# Altium schematic symbol library ADV7612.SchLib: 1 symbol
Pins are listed as number, name and electrical type; pins without a type are passive.

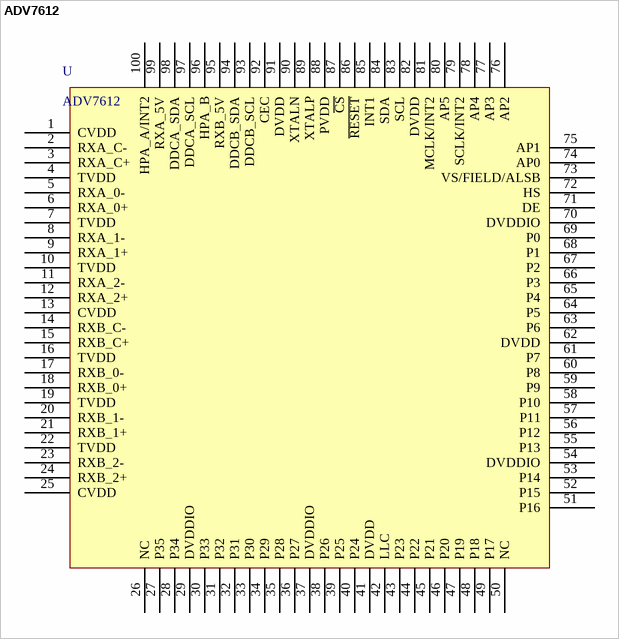
[diagram p0: symbol ADV7612]

## ADV7612
designator U
pins: 1 CVDD, 2 RXA_C-, 3 RXA_C+, 4 TVDD, 5 RXA_0-, 6 RXA_0+, 7 TVDD, 8 RXA_1-, 9 RXA_1+, 10 TVDD, 11 RXA_2-, 12 RXA_2+, 13 CVDD, 14 RXB_C-, 15 RXB_C+, 16 TVDD, 17 RXB_0-, 18 RXB_0+, 19 TVDD, 20 RXB_1-, 21 RXB_1+, 22 TVDD, 23 RXB_2-, 24 RXB_2+, 25 CVDD, 26 NC, 27 P35, 28 P34, 29 DVDDIO, 30 P33, 31 P32, 32 P31, 33 P30, 34 P29, 35 P28, 36 P27, 37 DVDDIO, 38 P26, 39 P25, 40 P24, 41 DVDD, 42 LLC, 43 P23, 44 P22, 45 P21, 46 P20, 47 P19, 48 P18, 49 P17, 50 NC, 51 P16, 52 P15, 53 P14, 54 DVDDIO, 55 P13, 56 P12, 57 P11, 58 P10, 59 P9, 60 P8, 61 P7, 62 DVDD, 63 P6, 64 P5, 65 P4, 66 P3, 67 P2, 68 P1, 69 P0, 70 DVDDIO, 71 DE, 72 HS, 73 VS/FIELD/ALSB, 74 AP0, 75 AP1, 76 AP2, 77 AP3, 78 AP4, 79 SCLK/INT2, 80 AP5, 81 MCLK/INT2, 82 DVDD, 83 SCL, 84 SDA, 85 INT1, 86 ~{RESET}, 87 ~{CS}, 88 PVDD, 89 XTALP, 90 XTALN, 91 DVDD, 92 CEC, 93 DDCB_SCL, 94 DDCB_SDA, 95 RXB_5V, 96 HPA_B, 97 DDCA_SCL, 98 DDCA_SDA, 99 RXA_5V, 100 HPA_A/INT2